# Altium footprint library Footprint-SWD_progr_interface.PcbLib: 1 footprints
Each footprint in its own frame and in the unit in brackets; x right, y up, seen from the top. Pads: shape width x height; smd on the part's side, far side on the other; paste and mask are expansions set on the pad; w line width, h text height; cw(c..) or ccw(c..) is an arc to the next point about the centre after c.
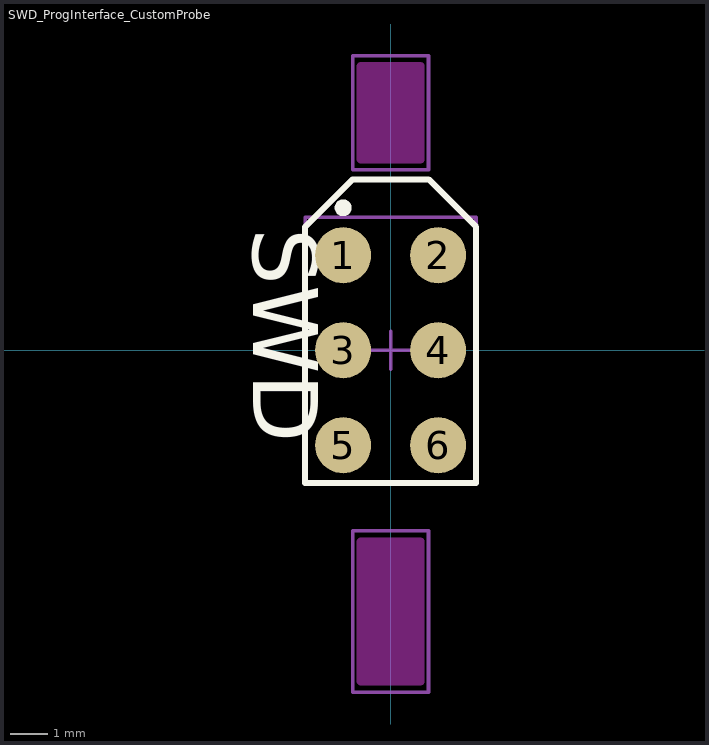
[diagram p0: the footprint, top view; thin cyan lines are the x and y axes]

## SWD_ProgInterface_CustomProbe [mm] "SWD programming interface for custom probe by Daniel Lotano."
pads (6):
  round 1.5 smd paste-2539.97 mask+0.102: 1(-1.27,2.54) 2(1.27,2.54) 3(-1.27,0) 4(1.27,0) 5(-1.27,-2.54) 6(1.27,-2.54)
Top Overlay:
  circle w0.25: c-1.27,3.81 r0.1
  lines w0.16: -2.286,-3.556 -2.286,3.302 -1.016,4.572 1.016,4.572 2.286,3.302 2.286,-3.556 -2.286,-3.556
  text "SWD" at -4.245,3.266 h3
Top Solder:
  circle w0.75: c-1.27,2.54 r0.375
  circle w0.75: c1.27,2.54 r0.375
  circle w0.75: c-1.27,0 r0.375
  circle w0.75: c1.27,0 r0.375
  circle w0.75: c-1.27,-2.54 r0.375
  circle w0.75: c1.27,-2.54 r0.375
Keep-Out Layer:
  board cut-out: -0.9,-8.86 -0.9,-5.11 -0.9,-5.09 -0.885,-5.053 -0.857,-5.025 -0.82,-5.01 -0.8,-5.01 0.8,-5.01 0.82,-5.01 0.857,-5.025 0.885,-5.053 0.9,-5.09 0.9,-5.11 0.9,-8.86 0.9,-8.88 0.885,-8.917 0.857,-8.945 0.82,-8.96 0.8,-8.96 -0.8,-8.96 -0.82,-8.96 -0.857,-8.945 -0.885,-8.917 -0.9,-8.88
  board cut-out: -0.9,5.1 -0.9,7.6 -0.9,7.62 -0.885,7.657 -0.857,7.685 -0.82,7.7 -0.8,7.7 0.8,7.7 0.82,7.7 0.857,7.685 0.885,7.657 0.9,7.62 0.9,7.6 0.9,5.1 0.9,5.08 0.885,5.043 0.857,5.015 0.82,5 0.8,5 -0.8,5 -0.82,5 -0.857,5.015 -0.885,5.043 -0.9,5.08
Top Courtyard:
  lines w0.1: -2.286,-3.556 -2.286,3.556 2.286,3.556 2.286,-3.556 -2.286,-3.556 ; -1.016,-9.144 -1.016,-4.826 1.016,-4.826 1.016,-9.144 -1.016,-9.144 ; -1.016,4.826 -1.016,7.874 1.016,7.874 1.016,4.826 -1.016,4.826
Bottom Courtyard:
  lines w0.1: -1.016,-9.144 -1.016,-4.826 1.016,-4.826 1.016,-9.144 -1.016,-9.144 ; -1.016,4.826 -1.016,7.874 1.016,7.874 1.016,4.826 -1.016,4.826
Top Designator:
  text ".Designator" at -4.998,-0.333 h1
Mechanical 13:
  lines w0.1: -0.508,0 0.508,0 ; 0,-0.508 0,0.508